# EAGLE library part 50281-016 (library con-aces-50281-series)
ACES CONNECTORS 50281 SERIES ACES Connecors 50281
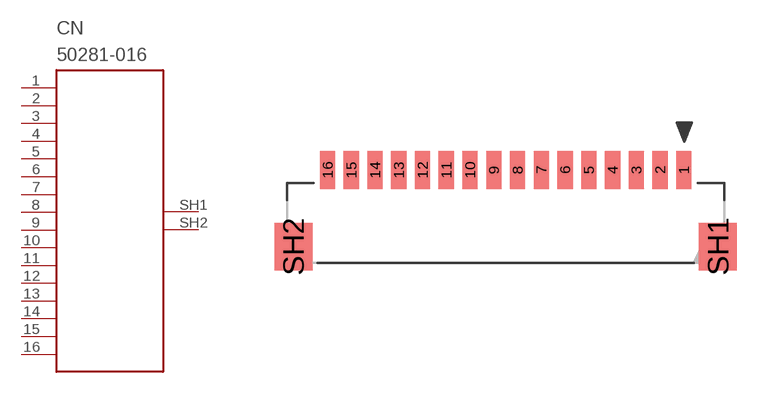
[diagram p11: symbol with the pads of 50281-016; footprint 50281-016]

Designator prefix CN

## 50281-016  [50281-016]
1  1
2  2
3  3
4  4
5  5
6  6
7  7
8  8
9  9
10  10
11  11
12  12
13  13
14  14
15  15
16  16
SH1  SH1
SH2  SH2

## Footprint 50281-016 (pad centres in mm)
smd 0.8 x 2: 1 9.375,1.9; 2 8.125,1.9; 3 6.875,1.9; 4 5.625,1.9; 5 4.375,1.9; 6 3.125,1.9; 7 1.875,1.9; 8 0.625,1.9; 9 -0.625,1.9; 10 -1.875,1.9; 11 -3.125,1.9; 12 -4.375,1.9; 13 -5.625,1.9; 14 -6.875,1.9; 15 -8.125,1.9; 16 -9.375,1.9
smd 2 x 2.5: SH1 11.175,-2.15; SH2 -11.175,-2.15